# Altium footprint library ECE453_PWR.PcbLib: 13 footprints
Each footprint in its own frame and in the unit in brackets; x right, y up, seen from the top. Pads: shape width x height; smd on the part's side, far side on the other; paste and mask are expansions set on the pad; w line width, h text height; cw(c..) or ccw(c..) is an arc to the next point about the centre after c.
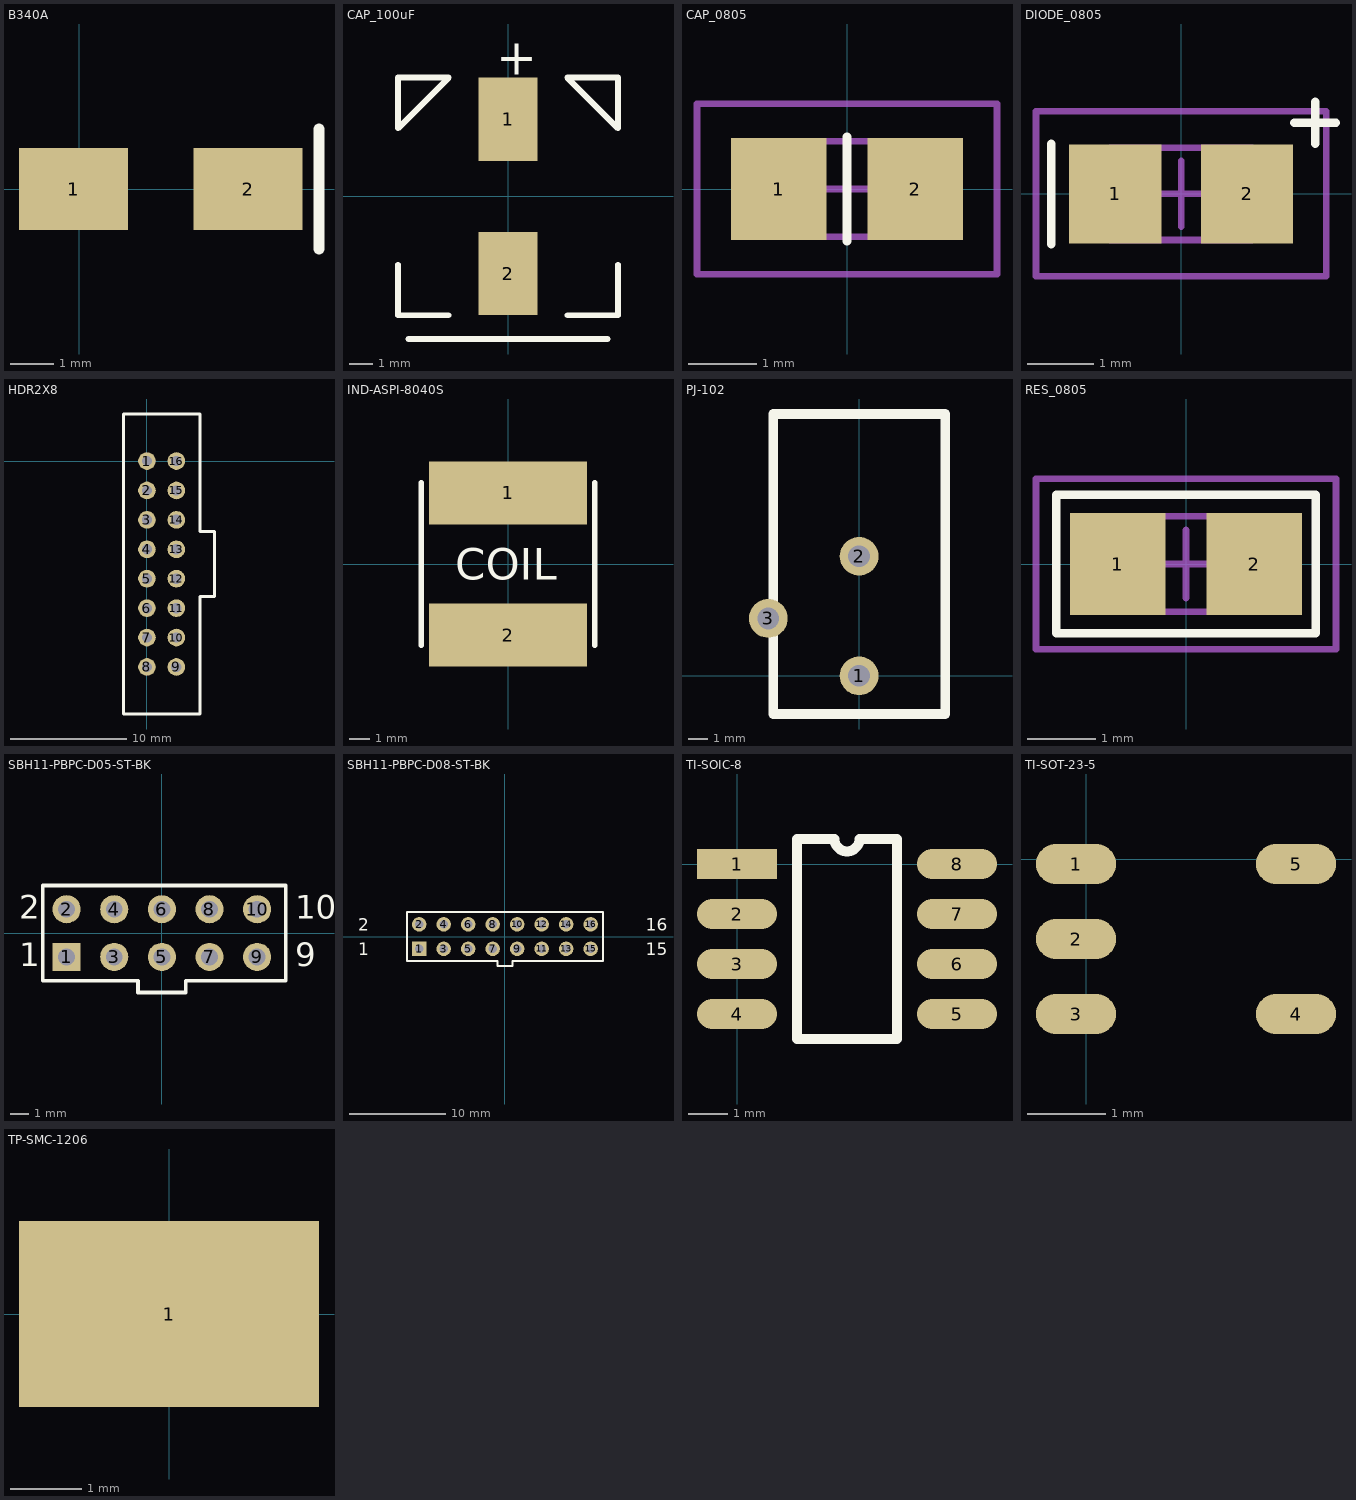
[diagram p0: the footprints below, top view; thin cyan lines are the x and y axes]

## B340A [mil]
pads (2):
  rect 100x75 smd: 1(-5,0) 2(155,0)
Top Overlay:
  lines w10: 220,-55 220,55
3D body "DO-214AC.stp": height 92.01, standoff 0, extent -29.01,-55 179.02,55

## CAP_100uF [mil]
pads (2):
  rect 100x140 smd: 1(0,130) 2(0,-130)
Top Overlay:
  lines w10: -185,-115 -185,-200 -100,-200 ; -167.47,-240 167.49,-240 ; 100,-200 185,-200 185,-115 ; -185,115 -185,200 -100,200 -185,115 ; 100,200 185,200 185,115 100,200
  text "+" at -20,205 h60
3D body "PCAP_8x10-ELECT.stp": height 407.01, standoff 0, extent -167.47,-182.99 167.49,182.99

## CAP_0805 [mm]
pads (2):
  rect 1.4x1.5 smd: 1(-1,0) 2(1,0)
Top Overlay:
  lines w0.127: 0,-0.762 0,0.762
Mechanical 13:
  lines w0.1: -1.075,-0.7 -1.075,0.7 1.075,0.7 1.075,-0.7 -1.075,-0.7
Mechanical 15:
  lines w0.1: -0.5,0 0.5,0 ; 0,-0.5 0,0.5 ; -2.2,-1.25 -2.2,1.25 2.2,1.25 2.2,-1.25 -2.2,-1.25
3D body "C0805C104M5RACTU.step": height 0.88, standoff 0, extent -1.079,-0.724 1.121,0.726

## DIODE_0805 [mm]
pads (2):
  rect 1.4x1.5 smd: 1(-1,0) 2(1,0)
Top Overlay:
  lines w0.127: -1.968,-0.762 -1.968,0.762 ; 1.714,1.079 2.349,1.079 ; 2.032,0.762 2.032,1.397
Mechanical 13:
  lines w0.1: -1.075,-0.7 -1.075,0.7 1.075,0.7 1.075,-0.7 -1.075,-0.7
Mechanical 15:
  lines w0.1: -0.5,0 0.5,0 ; 0,-0.5 0,0.5 ; -2.2,-1.25 -2.2,1.25 2.2,1.25 2.2,-1.25 -2.2,-1.25
3D body "0805_single.stp": height 0.71, standoff -0.01, extent -1.029,-0.635 1.029,0.635

## HDR2X8 [mil]
pads (16):
  round 60 hole 35: 1(0,0) 2(0,-100) 3(0,-200) 4(0,-300) 5(0,-400) 6(0,-500) 7(0,-600) 8(0,-700) 9(100,-700) 10(100,-600) 11(100,-500) 12(100,-400) 13(100,-300) 14(100,-200) 15(100,-100) 16(100,0)
Top Overlay:
  lines w10: -80,-860 180,-860 180,-460 230,-460 230,-240 180,-240 180,160 -80,160 -80,-860
3D body "SFH11-P_ _C-D08-ST-_ _.STEP": height 330.31, standoff -130.31, extent -70,-850 205.59,150

## IND-ASPI-8040S [mil]
pads (2):
  rect 300x120 smd: 1(0,135) 2(0,-135)
Top Overlay:
  lines w10: -165,-155 -165,155 ; 165,-155 165,155
  text "COIL" at -100,-30 h60
3D body "ASPI-8040S.STEP": height -20, standoff -177.48, extent -157.48,-157.48 157.48,157.48

## PJ-102 [mil]
pads (3):
  round 80 hole 45: 1(0,0) 2(0,246.05) 3(-187,118.1)
Top Overlay:
  lines w19.68: -177,-78.67 -177,538.87 177,538.87 177,-78.67 -177,-78.67
3D body "pj-102ah.stp": height 435.17, standoff -135.7, extent -190.04,-20 180.04,546.92

## RES_0805 [mm]
pads (2):
  rect 1.4x1.5 smd: 1(-1,0) 2(1,0)
Top Overlay:
  lines w0.127: -1.905,-1.016 -1.905,1.016 1.905,1.016 1.905,-1.016 1.524,-1.016 -1.905,-1.016
Mechanical 13:
  lines w0.1: -1.075,-0.7 1.075,-0.7 1.075,0.7 -1.075,0.7 -1.075,-0.7
Mechanical 15:
  lines w0.1: -0.5,0 0.5,0 ; 0,-0.5 0,0.5 ; -2.2,-1.25 2.2,-1.25 2.2,1.25 -2.2,1.25 -2.2,-1.25
3D body: height 0.7, standoff 0, extent -1.075,-0.7 1.075,0.7

## SBH11-PBPC-D05-ST-BK [mm]
pads (10):
  rect 1.5x1.5 hole 0.9: 1(-5.08,-1.27)
  round 1.5 hole 0.9: 2(-5.08,1.27) 3(-2.54,-1.27) 4(-2.54,1.27) 5(0,-1.27) 6(0,1.27) 7(2.54,-1.27) 8(2.54,1.27) 9(5.08,-1.27) 10(5.08,1.27)
Top Overlay:
  lines w0.2: -6.35,-2.54 -6.35,2.54 6.604,2.54 6.604,-2.54 ; -6.34,-2.538 -1.27,-2.538 -1.27,-3.175 1.27,-3.175 1.27,-2.54 4.592,-2.54 ; 4.599,-2.547 6.604,-2.547
  text "10" at 7.112,0.762 h1.27
  text "9" at 7.112,-1.778 h1.27
  text "1" at -7.62,-1.778 h1.27
  text "2" at -7.62,0.762 h1.27
3D body "SBH11-_ _ _C-D05-ST-_ _.STEP": height 8.95, standoff -3.15, extent -10.1,-4.445 10.1,4.655

## SBH11-PBPC-D08-ST-BK [mm]
pads (16):
  rect 1.5x1.5 hole 0.9: 1(-8.89,-1.27)
  round 1.5 hole 0.9: 2(-8.89,1.27) 3(-6.35,-1.27) 4(-6.35,1.27) 5(-3.81,-1.27) 6(-3.81,1.27) 7(-1.27,-1.27) 8(-1.27,1.27) 9(1.27,-1.27) 10(1.27,1.27) 11(3.81,-1.27) 12(3.81,1.27) 13(6.35,-1.27) 14(6.35,1.27) 15(8.89,-1.27) 16(8.89,1.27)
Top Overlay:
  lines w0.2: -10.16,-2.54 -10.16,2.54 10.16,2.54 10.16,-2.54 ; -10.15,-2.538 -0.79,-2.538 -0.79,-3.028 -0.788,-3.026 0.789,-3.026 0.789,-2.547 10.137,-2.547 10.171,-2.513
  text "16" at 14.605,0.635 h1.27
  text "15" at 14.605,-1.905 h1.27
  text "1" at -15.24,-1.905 h1.27
  text "2" at -15.24,0.635 h1.27
3D body "SBH11-_ _ _C-D08-ST-_ _.STEP": height 9.26, standoff -2.84, extent -13.9,-4.339 13.92,4.761

## TI-SOIC-8 [mil]
pads (8):
  rect 80x30 smd: 1(0,0)
  oval 80x30 smd: 2(0,-50) 3(0,-100) 4(0,-150) 5(220,-150) 6(220,-100) 7(220,-50) 8(220,0)
Top Overlay:
  lines w10: 60,-175 60,25 97.5,25 ccw(c110,25) 122.5,25 160,25 160,-175 60,-175
3D body "D8.stp": height 69.09, standoff 0, extent -12,-173.5 232.01,23.51

## TI-SOT-23-5 [mil]
pads (5):
  oval 40x20 smd: 1(-5,-2.5) 2(-5,-40) 3(-5,-77.5) 4(105,-77.5) 5(105,-2.5)
Top Overlay:
  text "." at -9,30 h60
3D body "DBV5.stp": height 57.09, standoff 0, extent -9,-99.99 109.02,20.01

## TP-SMC-1206 [mm]
pads (1):
  rect 4.2x2.6 smd mask+0: 1(0,0)
3D body "c-1625854-1-ba-3d.stp": height 1.22, standoff -0.03, extent -1.575,-0.787 1.625,0.813